# EAGLE library part 1473005-1 (library con-dimm)
DIMM SOCKET 200 POS, 0.6mm PITCH, STD PROFILE, STD TYPE (2.5V SUPPLY FORMAT)
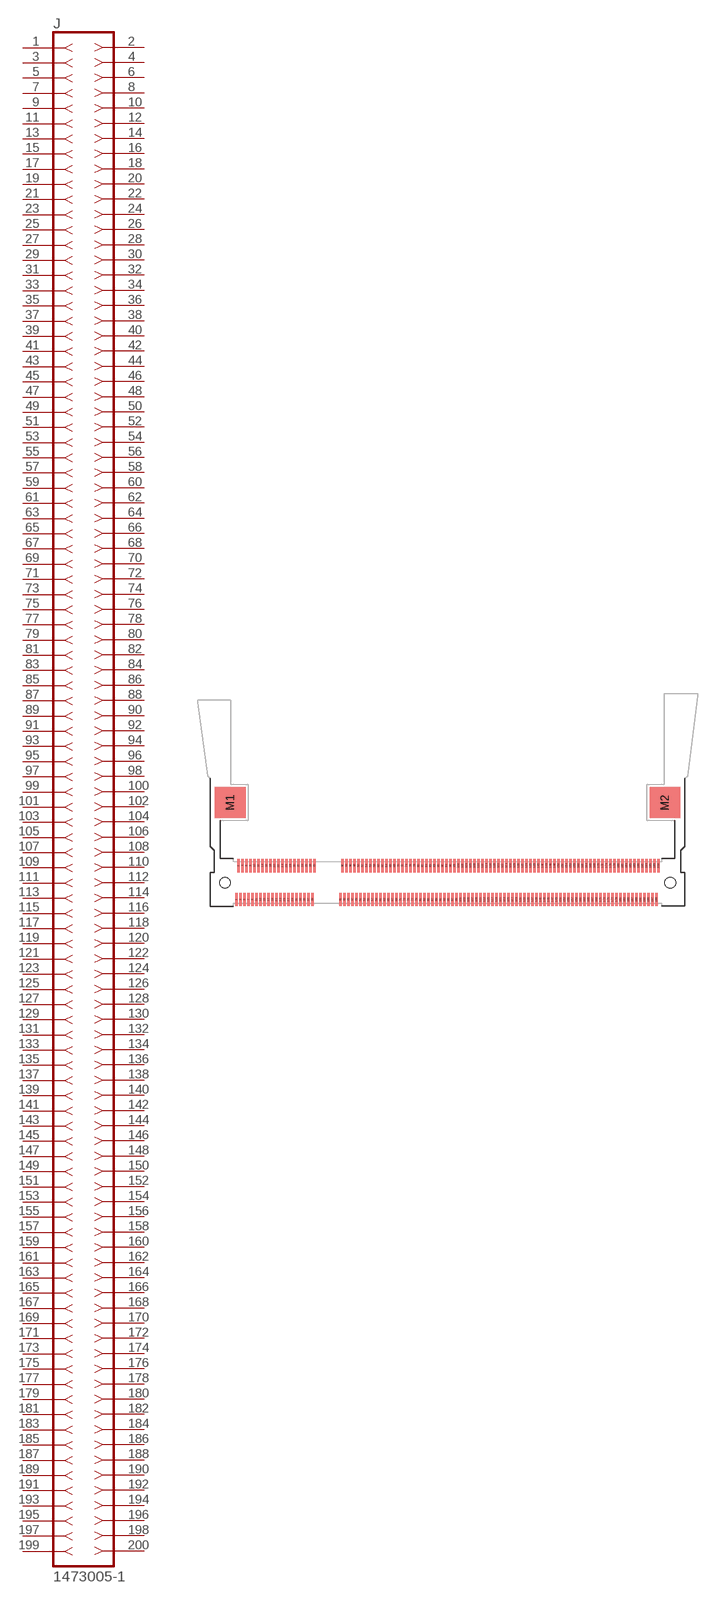
[diagram p0: symbol with the pads of 1473005-1; footprint 1473005-1]

Designator prefix J

## 1473005-1  [1473005-1]
1  1
2  2
3  3
4  4
5  5
6  6
7  7
8  8
9  9
10  10
11  11
12  12
13  13
14  14
15  15
16  16
17  17
18  18
19  19
20  20
21  21
22  22
23  23
24  24
25  25
26  26
27  27
28  28
29  29
30  30
31  31
32  32
33  33
34  34
35  35
36  36
37  37
38  38
39  39
40  40
41  41
42  42
43  43
44  44
45  45
46  46
47  47
48  48
49  49
50  50
51  51
52  52
53  53
54  54
55  55
56  56
57  57
58  58
59  59
60  60
61  61
62  62
63  63
64  64
65  65
66  66
67  67
68  68
69  69
70  70
71  71
72  72
73  73
74  74
75  75
76  76
77  77
78  78
79  79
80  80
81  81
82  82
83  83
84  84
85  85
86  86
87  87
88  88
89  89
90  90
91  91
92  92
93  93
94  94
95  95
96  96
97  97
98  98
99  99
100  100
101  101
102  102
103  103
104  104
105  105
106  106
107  107
108  108
109  109
110  110
111  111
112  112
113  113
114  114
115  115
116  116
117  117
118  118
119  119
120  120
121  121
122  122
123  123
124  124
125  125
126  126
127  127
128  128
129  129
130  130
131  131
132  132
133  133
134  134
135  135
136  136
137  137
138  138
139  139
140  140
141  141
142  142
143  143
144  144
145  145
146  146
147  147
148  148
149  149
150  150
151  151
152  152
153  153
154  154
155  155
156  156
157  157
158  158
159  159
160  160
161  161
162  162
163  163
164  164
165  165
166  166
167  167
168  168
169  169
170  170
171  171
172  172
173  173
174  174
175  175
176  176
177  177
178  178
179  179
180  180
181  181
182  182
183  183
184  184
185  185
186  186
187  187
188  188
189  189
190  190
191  191
192  192
193  193
194  194
195  195
196  196
197  197
198  198
199  199
200  200

## Footprint 1473005-1 (pad centres in mm)
DIMM SOCKET 200 POS, 0.6mm PITCH, STD PROFILE, STD TYPE (2.5V SUPPLY FORMAT)
smd 0.35 x 2: 1 -31.65,-2.55; 2 -31.35,2.55; 3 -31.05,-2.55; 4 -30.75,2.55; 5 -30.45,-2.55; 6 -30.15,2.55; 7 -29.85,-2.55; 8 -29.55,2.55; 9 -29.25,-2.55; 10 -28.95,2.55; 11 -28.65,-2.55; 12 -28.35,2.55; 13 -28.05,-2.55; 14 -27.75,2.55; 15 -27.45,-2.55; 16 -27.15,2.55; 17 -26.85,-2.55; 18 -26.55,2.55; 19 -26.25,-2.55; 20 -25.95,2.55; 21 -25.65,-2.55; 22 -25.35,2.55; 23 -25.05,-2.55; 24 -24.75,2.55; 25 -24.45,-2.55; 26 -24.15,2.55; 27 -23.85,-2.55; 28 -23.55,2.55; 29 -23.25,-2.55; 30 -22.95,2.55; 31 -22.65,-2.55; 32 -22.35,2.55; 33 -22.05,-2.55; 34 -21.75,2.55; 35 -21.45,-2.55; 36 -21.15,2.55; 37 -20.85,-2.55; 38 -20.55,2.55; 39 -20.25,-2.55; 40 -19.95,2.55; 41 -16.05,-2.55; 42 -15.75,2.55; 43 -15.45,-2.55; 44 -15.15,2.55; 45 -14.85,-2.55; 46 -14.55,2.55; 47 -14.25,-2.55; 48 -13.95,2.55; 49 -13.65,-2.55; 50 -13.35,2.55; 51 -13.05,-2.55; 52 -12.75,2.55; 53 -12.45,-2.55; 54 -12.15,2.55; 55 -11.85,-2.55; 56 -11.55,2.55; 57 -11.25,-2.55; 58 -10.95,2.55; 59 -10.65,-2.55; 60 -10.35,2.55; 61 -10.05,-2.55; 62 -9.75,2.55; 63 -9.45,-2.55; 64 -9.15,2.55; 65 -8.85,-2.55; 66 -8.55,2.55; 67 -8.25,-2.55; 68 -7.95,2.55; 69 -7.65,-2.55; 70 -7.35,2.55; 71 -7.05,-2.55; 72 -6.75,2.55; 73 -6.45,-2.55; 74 -6.15,2.55; 75 -5.85,-2.55; 76 -5.55,2.55; 77 -5.25,-2.55; 78 -4.95,2.55; 79 -4.65,-2.55; 80 -4.35,2.55; 81 -4.05,-2.55; 82 -3.75,2.55; 83 -3.45,-2.55; 84 -3.15,2.55; 85 -2.85,-2.55; 86 -2.55,2.55; 87 -2.25,-2.55; 88 -1.95,2.55; 89 -1.65,-2.55; 90 -1.35,2.55; 91 -1.05,-2.55; 92 -0.75,2.55; 93 -0.45,-2.55; 94 -0.15,2.55; 95 0.15,-2.55; 96 0.45,2.55; 97 0.75,-2.55; 98 1.05,2.55; 99 1.35,-2.55; 100 1.65,2.55; 101 1.95,-2.55; 102 2.25,2.55; 103 2.55,-2.55; 104 2.85,2.55; 105 3.15,-2.55; 106 3.45,2.55; 107 3.75,-2.55; 108 4.05,2.55; 109 4.35,-2.55; 110 4.65,2.55; 111 4.95,-2.55; 112 5.25,2.55; 113 5.55,-2.55; 114 5.85,2.55; 115 6.15,-2.55; 116 6.45,2.55; 117 6.75,-2.55; 118 7.05,2.55; 119 7.35,-2.55; 120 7.65,2.55; 121 7.95,-2.55; 122 8.25,2.55; 123 8.55,-2.55; 124 8.85,2.55; 125 9.15,-2.55; 126 9.45,2.55; 127 9.75,-2.55; 128 10.05,2.55; 129 10.35,-2.55; 130 10.65,2.55; 131 10.95,-2.55; 132 11.25,2.55; 133 11.55,-2.55; 134 11.85,2.55; 135 12.15,-2.55; 136 12.45,2.55; 137 12.75,-2.55; 138 13.05,2.55; 139 13.35,-2.55; 140 13.65,2.55; 141 13.95,-2.55; 142 14.25,2.55; 143 14.55,-2.55; 144 14.85,2.55; 145 15.15,-2.55; 146 15.45,2.55; 147 15.75,-2.55; 148 16.05,2.55; 149 16.35,-2.55; 150 16.65,2.55; 151 16.95,-2.55; 152 17.25,2.55; 153 17.55,-2.55; 154 17.85,2.55; 155 18.15,-2.55; 156 18.45,2.55; 157 18.75,-2.55; 158 19.05,2.55; 159 19.35,-2.55; 160 19.65,2.55; 161 19.95,-2.55; 162 20.25,2.55; 163 20.55,-2.55; 164 20.85,2.55; 165 21.15,-2.55; 166 21.45,2.55; 167 21.75,-2.55; 168 22.05,2.55; 169 22.35,-2.55; 170 22.65,2.55; 171 22.95,-2.55; 172 23.25,2.55; 173 23.55,-2.55; 174 23.85,2.55; 175 24.15,-2.55; 176 24.45,2.55; 177 24.75,-2.55; 178 25.05,2.55; 179 25.35,-2.55; 180 25.65,2.55; 181 25.95,-2.55; 182 26.25,2.55; 183 26.55,-2.55; 184 26.85,2.55; 185 27.15,-2.55; 186 27.45,2.55; 187 27.75,-2.55; 188 28.05,2.55; 189 28.35,-2.55; 190 28.65,2.55; 191 28.95,-2.55; 192 29.25,2.55; 193 29.55,-2.55; 194 29.85,2.55; 195 30.15,-2.55; 196 30.45,2.55; 197 30.75,-2.55; 198 31.05,2.55; 199 31.35,-2.55; 200 31.65,2.55
smd 4.6 x 4.6: M1 -32.6,12; M2 32.6,12
hole 1.6 at -33.4,0
hole 1.6 at 33.4,0